# EAGLE library part BZX84C5V6TS (library Diode-Array)
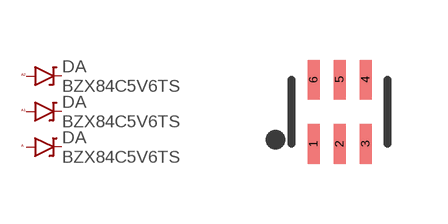
[diagram p0: symbol with the pads of SOT363; footprint SOT363]

Designator prefix DA

## BZX84C5V6TS  [SOT363]
1  A  pas
2  A1  pas
3  A2  pas
4  C2  pas
5  C1  pas
6  C  pas

## Footprint SOT363 (pad centres in mm)
smd 0.3 x 0.99: 1 0.62,0.47; 2 1.27,0.47; 3 1.92,0.47; 4 1.92,2.08; 5 1.27,2.08; 6 0.62,2.08